# Altium footprint library Blueberry_PS.PcbLib: 38 footprints (part 1 of 3)
Each footprint in its own frame and in the unit in brackets; x right, y up, seen from the top. Pads: shape width x height; smd on the part's side, far side on the other; paste and mask are expansions set on the pad; w line width, h text height; cw(c..) or ccw(c..) is an arc to the next point about the centre after c.
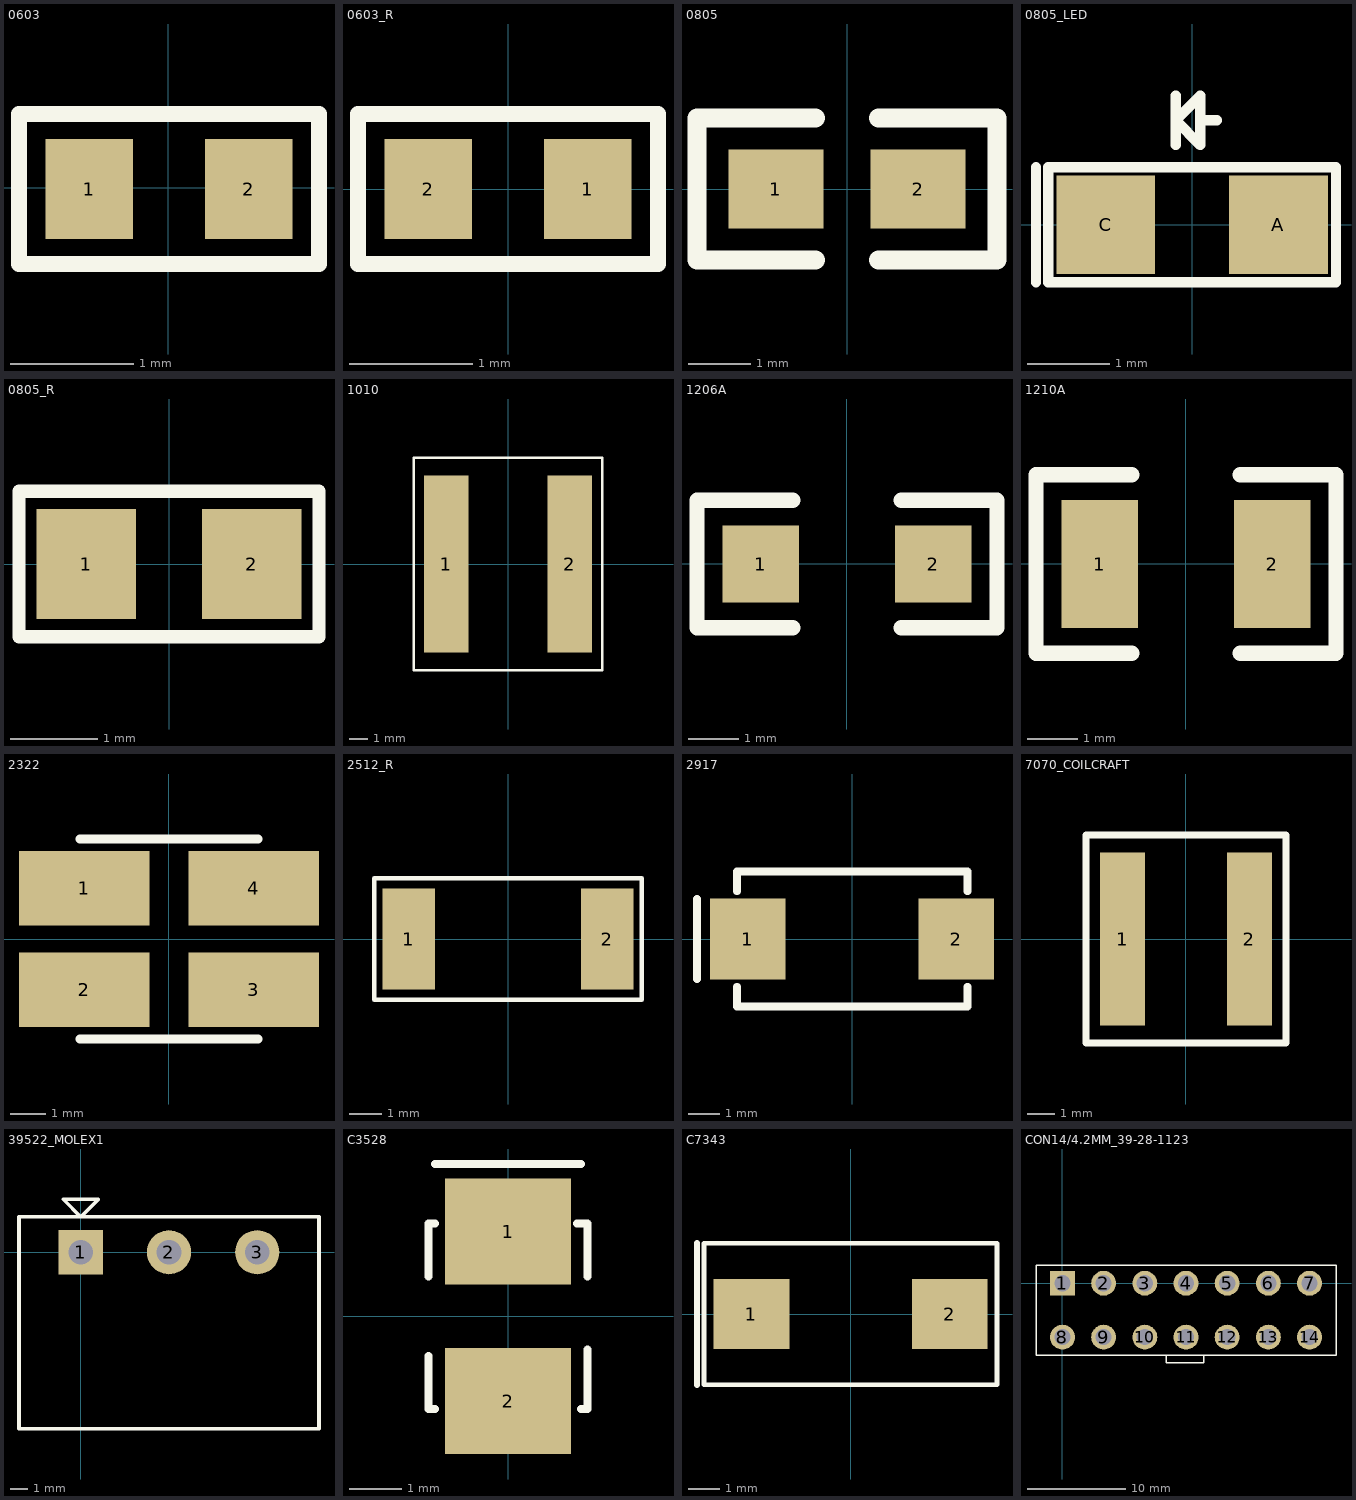
[diagram p0: the footprints below, top view; thin cyan lines are the x and y axes]

## 0603 [mil]
pads (2):
  rect 28x32 smd: 1(-25.33,-0.34) 2(25.67,-0.34)
Top Overlay:
  lines w5: -47.83,-24.34 -47.83,23.66 48.17,23.66 48.17,-24.34 -47.83,-24.34

## 0603_R [mil]
pads (2):
  rect 28x32 smd: 1(25.5,0) 2(-25.5,0)
Top Overlay:
  lines w5: -48,-24 -48,24 48,24 48,-24 -48,-24

## 0805 [mil]
pads (2):
  rect 60x50 smd: 1(-45,0) 2(45,0)
Top Overlay:
  lines w12: -20,-45 -95,-45 -95,45 -20,45 ; 20,-45 95,-45 95,45 20,45

## 0805_LED [mm]
pads (2):
  rect 1.2x1.2 smd: A(1.05,0) C(-1.05,0)
Top Overlay:
  lines w0.127: -1.9,-0.7 -1.9,0.7 ; -0.2,0.97 -0.2,1.57 ; 0.1,1.27 0.3,1.27 ; -1.75,-0.7 -1.75,0.7 1.75,0.7 1.75,-0.7 -1.75,-0.7 ; -0.2,1.27 0.1,1.57 0.1,0.97 -0.2,1.27

## 0805_R [mil]
pads (2):
  rect 45x50 smd: 1(-37.5,0) 2(37.5,0)
Top Overlay:
  lines w6: -68,-33 68,-33 68,33 -68,33 -68,-33

## 1010 [mm]
pads (2):
  rect 2.38x9.51 smd: 1(-3.325,0) 2(3.325,0)
Top Overlay:
  lines w0.127: -5.08,-5.715 5.08,-5.715 5.08,5.715 -5.08,5.715 -5.08,-5.715

## 1206A [mil]
pads (2):
  rect 60x60 smd: 1(-67.33,-0.34) 2(67.67,-0.34)
Top Overlay:
  lines w12: -42.33,-50.34 -117.33,-50.34 -117.33,49.66 -42.33,49.66 ; 42.67,-50.34 117.67,-50.34 117.67,49.66 42.67,49.66

## 1210A [mil]
pads (2):
  rect 60x100 smd: 1(-67.33,-0.34) 2(67.67,-0.34)
Top Overlay:
  lines w12: -42.33,-70.34 -117.33,-70.34 -117.33,69.66 -42.33,69.66 ; 42.67,-70.34 117.67,-70.34 117.67,69.66 42.67,69.66

## 2322 [mm]
pads (4):
  rect 3.66x2.09 smd: 1(-2.375,1.425) 2(-2.375,-1.425) 3(2.375,-1.425) 4(2.375,1.425)
Top Overlay:
  lines w0.254: -2.5,-2.8 2.5,-2.8 ; -2.5,2.8 2.5,2.8

## 2512_R [mil]
pads (2):
  rect 65x125 smd: 1(-122.5,0) 2(122.5,0)
Top Overlay:
  lines w6: -165,-75 -165,75 165,75 165,-75 -165,-75

## 2917 [mil]
pads (2):
  rect 95x102 smd: 1(-131,0) 2(131,0)
Top Overlay:
  lines w10: -195,-50 -195,50 ; -145,-60 -145,-85 145,-85 145,-60 ; -145,60 -145,85 145,85 145,60

## 7070_COILCRAFT [mm]
pads (2):
  rect 1.63x6.23 smd: 1(-2.285,0) 2(2.285,0)
Top Overlay:
  lines w0.254: -3.6,-3.75 3.6,-3.75 3.6,3.75 -3.6,3.75 -3.6,-3.75

## 39522_MOLEX1 [mm]
pads (3):
  rect 2.5x2.5 hole 1.4: 1(0,0)
  round 2.5 hole 1.4: 2(5,0) 3(10,0)
Top Overlay:
  lines w0.203: -1,3 1,3 0,2 ; -1,3 -1,3 ; -1,3 0,2 ; 0,2 0,2 ; -3.5,-10 13.5,-10 13.5,2 -3.5,2 -3.5,-10

## C3528 [mil]
pads (2):
  rect 95x80 smd: 1(0,64) 2(0,-64)
Top Overlay:
  lines w6: -60,-30 -60,-70 -55,-70 ; -60,30 -60,70 -55,70 ; -55,115 55,115 ; 52,70 60,70 60,30 ; 55,-70 60,-70 60,-25

## C7343 [mm]
pads (2):
  rect 2.45x2.25 smd: 1(-3.2,0) 2(3.2,0)
Top Overlay:
  lines w0.152: -4.724,-2.286 4.724,-2.286 4.724,2.286 -4.724,2.286 -4.724,-2.286
  lines w0.203: -4.953,-2.286 -4.953,2.286

## CON14/4.2MM_39-28-1123 [mm]
pads (14):
  rect 2.54x2.54 hole 1.651: 1(0,0)
  round 2.54 hole 1.651: 2(4.2,0) 3(8.4,0) 4(12.6,0) 5(16.8,0) 6(21,0) 7(25.2,0) 8(0,-5.5) 9(4.2,-5.5) 10(8.4,-5.5) 11(12.6,-5.5) 12(16.8,-5.5) 13(21,-5.5) 14(25.2,-5.5)
Top Overlay:
  lines w0.152: 10.6,-7.366 10.6,-8.128 14.4,-8.128 14.4,-7.366 ; -2.7,-7.35 27.9,-7.35 27.9,1.85 -2.7,1.85 -2.7,-7.35